# Altium footprint library pcblib_by_wjy.PcbLib: 113 footprints (part 5 of 8)
Each footprint in its own frame and in the unit in brackets; x right, y up, seen from the top. Pads: shape width x height; smd on the part's side, far side on the other; paste and mask are expansions set on the pad; w line width, h text height; cw(c..) or ccw(c..) is an arc to the next point about the centre after c.
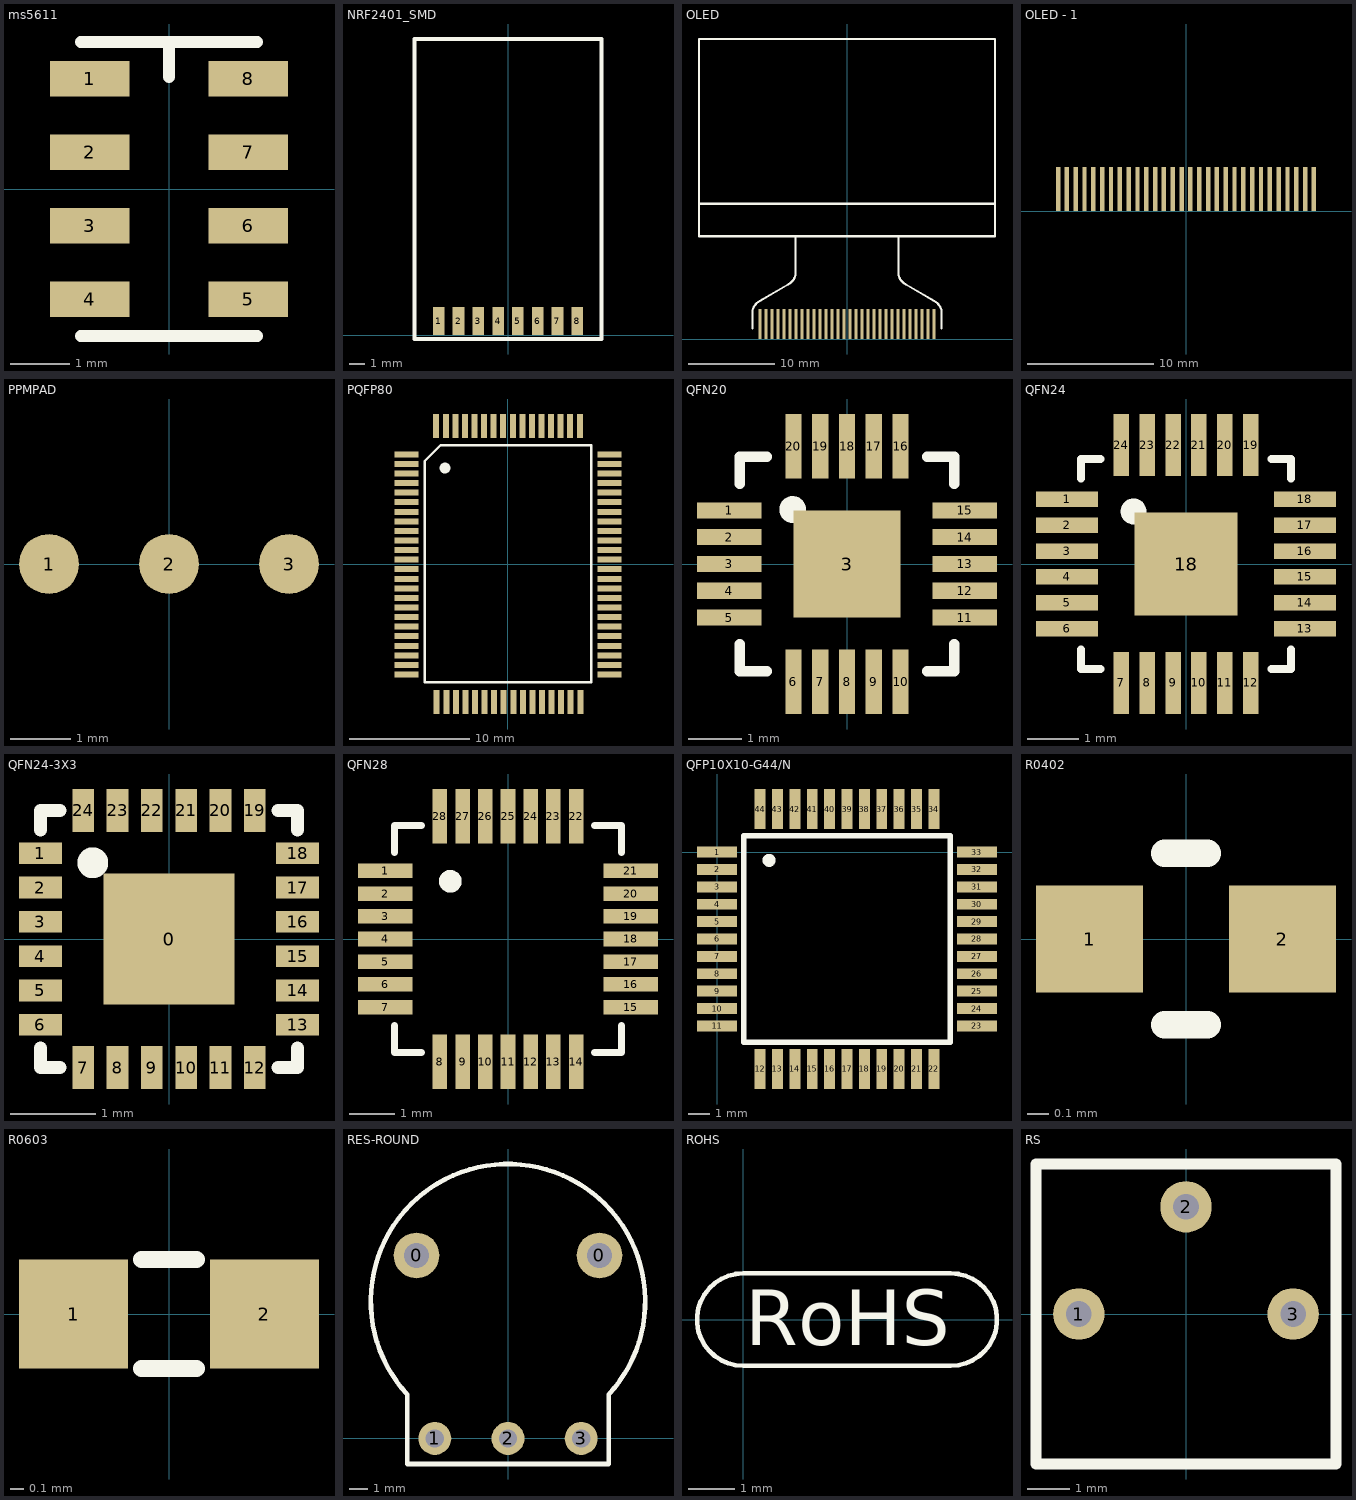
[diagram p4: the footprints below, top view; thin cyan lines are the x and y axes]

## ms5611 [mm]
pads (8):
  rect 1.35x0.6 smd: 1(-1.35,1.875) 2(-1.35,0.625) 3(-1.35,-0.625) 4(-1.35,-1.875) 5(1.35,-1.875) 6(1.35,-0.625) 7(1.35,0.625) 8(1.35,1.875)
Top Overlay:
  lines w0.2: -1.5,-2.5 1.5,-2.5 ; -1.5,2.5 1.5,2.5 ; 0,1.905 0,2.5

## NRF2401_SMD [mm]
pads (8):
  rect 0.75x1.8 smd: 1(-4.445,0.889) 2(-3.175,0.889) 3(-1.905,0.889) 4(-0.635,0.889) 5(0.635,0.889) 6(1.905,0.889) 7(3.175,0.889) 8(4.445,0.889)
Top Overlay:
  lines w0.254: -6,-0.254 -6,19 6,19 6,-0.254 -6,-0.254

## OLED [mm]
pads (30):
  rect 0.35x3.5 smd: 1(-10.15,1.778) 2(-9.45,1.778) 3(-8.75,1.778) 4(-8.05,1.778) 5(-7.35,1.778) 6(-6.65,1.778) 7(-5.95,1.778) 8(-5.25,1.778) 9(-4.55,1.778) 10(-3.85,1.778) 11(-3.15,1.778) 12(-2.45,1.778) 13(-1.75,1.778) 14(-1.05,1.778) 15(-0.35,1.778) 16(0.35,1.778) 17(1.05,1.778) 18(1.75,1.778) 19(2.45,1.778) 20(3.15,1.778) 21(3.85,1.778) 22(4.55,1.778) 23(5.25,1.778) 24(5.95,1.778) 25(6.65,1.778) 26(7.35,1.778) 27(8.05,1.778) 28(8.75,1.778) 29(9.45,1.778) 30(10.15,1.778)
Top Overlay:
  lines w0.254: -17.25,15.8 17.25,15.8 ; -11.005,3.379 cw(c-9.302,2.954) -10.186,4.47 -6.821,6.413 ; -11,1.27 -11,3.379 ; -6.819,6.409 ccw(c-7.702,7.925) -6,7.5 -6,12 ; 6,12 6,7.5 ccw(c7.702,7.926) 6.819,6.409 ; 6.821,6.413 10.186,4.47 cw(c9.302,2.954) 11.005,3.38 ; 11,1.27 11,3.379 ; -17.25,12 17.25,12 17.25,35 -17.25,35 -17.25,12

## OLED - 1 [mm]
pads (30):
  rect 0.35x3.5 smd: 1(-10.15,1.778) 2(-9.45,1.778) 3(-8.75,1.778) 4(-8.05,1.778) 5(-7.35,1.778) 6(-6.65,1.778) 7(-5.95,1.778) 8(-5.25,1.778) 9(-4.55,1.778) 10(-3.85,1.778) 11(-3.15,1.778) 12(-2.45,1.778) 13(-1.75,1.778) 14(-1.05,1.778) 15(-0.35,1.778) 16(0.35,1.778) 17(1.05,1.778) 18(1.75,1.778) 19(2.45,1.778) 20(3.15,1.778) 21(3.85,1.778) 22(4.55,1.778) 23(5.25,1.778) 24(5.95,1.778) 25(6.65,1.778) 26(7.35,1.778) 27(8.05,1.778) 28(8.75,1.778) 29(9.45,1.778) 30(10.15,1.778)

## PPMPAD [mm]
pads (3):
  round 1 smd: 1(-2,0) 2(0,0) 3(2,0)

## PQFP80 [mm]
pads (80):
  rect 2x0.5 smd: 1(-8.5,9.164) 2(-8.5,8.364) 3(-8.5,7.564) 4(-8.5,6.764) 5(-8.5,5.964) 6(-8.5,5.164) 7(-8.5,4.364) 8(-8.5,3.564) 9(-8.5,2.764) 10(-8.5,1.964) 11(-8.5,1.164) 12(-8.5,0.364) 13(-8.5,-0.436) 14(-8.5,-1.236) 15(-8.5,-2.036) 16(-8.5,-2.836) 17(-8.5,-3.636) 18(-8.5,-4.436) 19(-8.5,-5.236) 20(-8.5,-6.036) 21(-8.5,-6.836) 22(-8.5,-7.636) 23(-8.5,-8.436) 24(-8.5,-9.236) 41(8.5,-9.236) 42(8.5,-8.436) 43(8.5,-7.636) 44(8.5,-6.836) 45(8.5,-6.036) 46(8.5,-5.236) 47(8.5,-4.436) 48(8.5,-3.636) 49(8.5,-2.836) 50(8.5,-2.036) 51(8.5,-1.236) 52(8.5,-0.436) 53(8.5,0.364) 54(8.5,1.164) 55(8.5,1.964) 56(8.5,2.764) 57(8.5,3.564) 58(8.5,4.364) 59(8.5,5.164) 60(8.5,5.964) 61(8.5,6.764) 62(8.5,7.564) 63(8.5,8.364) 64(8.5,9.164)
  rect 0.5x2 smd: 25(-5.96,-11.537) 26(-5.16,-11.537) 27(-4.36,-11.537) 28(-3.56,-11.537) 29(-2.76,-11.537) 30(-1.96,-11.537) 31(-1.16,-11.537) 32(-0.36,-11.537) 33(0.44,-11.537) 34(1.24,-11.537) 35(2.04,-11.537) 36(2.84,-11.537) 37(3.64,-11.537) 38(4.44,-11.537) 39(5.24,-11.537) 40(6.04,-11.537) 65(6,11.537) 66(5.2,11.537) 67(4.4,11.537) 68(3.6,11.537) 69(2.8,11.537) 70(2,11.537) 71(1.2,11.537) 72(0.4,11.537) 73(-0.4,11.537) 74(-1.2,11.537) 75(-2,11.537) 76(-2.8,11.537) 77(-3.6,11.537) 78(-4.4,11.537) 79(-5.2,11.537) 80(-6,11.537)
Top Overlay:
  circle w0.5: c-5.271,8.021 r0.2
  lines w0.2: -6.965,-9.886 -6.965,8.594 -5.633,9.926 6.965,9.926 6.965,-9.886 -6.965,-9.886

## QFN20 [mm]
pads (21):
  rect 1.2x0.3 smd: 1(-2.2,1) 2(-2.2,0.5) 3(-2.2,0) 4(-2.2,-0.5) 5(-2.2,-1) 11(2.2,-1) 12(2.2,-0.5) 13(2.2,0) 14(2.2,0.5) 15(2.2,1)
  rect 2x2 smd: 3(0,0)
  rect 0.3x1.2 smd: 6(-1,-2.2) 7(-0.5,-2.2) 8(0,-2.2) 9(0.5,-2.2) 10(1,-2.2) 16(1,2.2) 17(0.5,2.2) 18(0,2.2) 19(-0.5,2.2) 20(-1,2.2)
Top Overlay:
  circle w0.25: c-1.014,1.016 r0.125
  lines w0.2: -2,-1.5 -2,-2 -1.5,-2 ; -2,1.5 -2,2 -1.5,2 ; 1.5,-2 2,-2 2,-1.5 ; 1.5,2 2,2 2,1.5

## QFN24 [mm]
pads (25):
  rect 1.2x0.3 smd: 1(-2.3,1.25) 2(-2.3,0.75) 3(-2.3,0.25) 4(-2.3,-0.25) 5(-2.3,-0.75) 6(-2.3,-1.25) 13(2.3,-1.25) 14(2.3,-0.75) 15(2.3,-0.25) 16(2.3,0.25) 17(2.3,0.75) 18(2.3,1.25)
  rect 0.3x1.2 smd: 7(-1.25,-2.3) 8(-0.75,-2.3) 9(-0.25,-2.3) 10(0.25,-2.3) 11(0.75,-2.3) 12(1.25,-2.3) 19(1.25,2.3) 20(0.75,2.3) 21(0.25,2.3) 22(-0.25,2.3) 23(-0.75,2.3) 24(-1.25,2.3)
  rect 2x2 smd: 18(0,0)
Top Overlay:
  circle w0.25: c-1.014,1.016 r0.125
  lines w0.15: -2.032,-1.651 -2.032,-2.032 -1.651,-2.032 ; -2.032,1.651 -2.032,2.032 -1.651,2.032 ; 1.651,-2.032 2.032,-2.032 2.032,-1.651 ; 1.651,2.032 2.032,2.032 2.032,1.651

## QFN24-3X3 [mm]
pads (25):
  rect 1.524x1.524 smd: 0(0,0)
  rect 0.5x0.254 smd: 1(-1.5,1) 2(-1.5,0.6) 3(-1.5,0.2) 4(-1.5,-0.2) 5(-1.5,-0.6) 6(-1.5,-1) 13(1.5,-1) 14(1.5,-0.6) 15(1.5,-0.2) 16(1.5,0.2) 17(1.5,0.6) 18(1.5,1)
  rect 0.254x0.5 smd: 7(-1,-1.5) 8(-0.6,-1.5) 9(-0.2,-1.5) 10(0.2,-1.5) 11(0.6,-1.5) 12(1,-1.5) 19(1,1.5) 20(0.6,1.5) 21(0.2,1.5) 22(-0.2,1.5) 23(-0.6,1.5) 24(-1,1.5)
Top Overlay:
  circle w0.2: c-0.889,0.889 r0.08
  lines w0.15: -1.5,-1.27 -1.5,-1.5 -1.27,-1.5 ; -1.5,1.27 -1.5,1.5 -1.27,1.5 ; 1.27,-1.5 1.5,-1.5 1.5,-1.27 ; 1.27,1.5 1.5,1.5 1.5,1.27

## QFN28 [mm]
pads (28):
  rect 1.2x0.32 smd: 1(-2.7,1.5) 2(-2.7,1) 3(-2.7,0.5) 4(-2.7,0) 5(-2.7,-0.5) 6(-2.7,-1) 7(-2.7,-1.5) 15(2.7,-1.5) 16(2.7,-1) 17(2.7,-0.5) 18(2.7,0) 19(2.7,0.5) 20(2.7,1) 21(2.7,1.5)
  rect 0.32x1.2 smd: 8(-1.5,-2.7) 9(-1,-2.7) 10(-0.5,-2.7) 11(0,-2.7) 12(0.5,-2.7) 13(1,-2.7) 14(1.5,-2.7) 22(1.5,2.7) 23(1,2.7) 24(0.5,2.7) 25(0,2.7) 26(-0.5,2.7) 27(-1,2.7) 28(-1.5,2.7)
Top Overlay:
  circle w0.25: c-1.268,1.27 r0.125
  lines w0.15: -2.5,-1.9 -2.5,-2.5 -1.9,-2.5 ; -2.5,1.9 -2.5,2.5 -1.9,2.5 ; 1.9,-2.5 2.5,-2.5 2.5,-1.9 ; 1.9,2.5 2.5,2.5 2.5,1.9

## QFP10X10-G44/N [mm]
pads (44):
  rect 1.85x0.5 smd: 1(0,0) 2(0,-0.8) 3(0,-1.6) 4(0,-2.4) 5(0,-3.2) 6(0,-4) 7(0,-4.8) 8(0,-5.6) 9(0,-6.4) 10(0,-7.2) 11(0,-8) 23(11.95,-8) 24(11.95,-7.2) 25(11.95,-6.4) 26(11.95,-5.6) 27(11.95,-4.8) 28(11.95,-4) 29(11.95,-3.2) 30(11.95,-2.4) 31(11.95,-1.6) 32(11.95,-0.8) 33(11.95,0)
  rect 0.5x1.85 smd: 12(1.975,-9.975) 13(2.775,-9.975) 14(3.575,-9.975) 15(4.375,-9.975) 16(5.175,-9.975) 17(5.975,-9.975) 18(6.775,-9.975) 19(7.575,-9.975) 20(8.375,-9.975) 21(9.175,-9.975) 22(9.975,-9.975) 34(9.975,1.975) 35(9.175,1.975) 36(8.375,1.975) 37(7.575,1.975) 38(6.775,1.975) 39(5.975,1.975) 40(5.175,1.975) 41(4.375,1.975) 42(3.575,1.975) 43(2.775,1.975) 44(1.975,1.975)
Top Overlay:
  circle w0.3: c2.39,-0.381 r0.15
  lines w0.25: 1.225,-8.75 1.225,0.75 10.725,0.75 10.725,-8.75 1.225,-8.75

## R0402 [mm] "R0402"
pads (2):
  rect 0.5x0.5 smd: 1(-0.45,0) 2(0.45,0)
Top Overlay:
  lines w0.127: -0.1,-0.4 0.1,-0.4 ; -0.1,0.4 0.1,0.4
3D body "R0402.STEP": height 0.35, standoff 0, extent -0.5,-0.25 0.5,0.25

## R0603 [mm] "R0603"
pads (2):
  rect 0.8x0.8 smd: 1(-0.7,0) 2(0.7,0)
Top Overlay:
  lines w0.127: -0.2,-0.4 0.2,-0.4 ; -0.2,0.4 0.2,0.4
3D body "CAPC1608(0603).STEP": height 0.6, standoff 0, extent -0.75,-0.4 0.85,0.4

## RES-ROUND [mm]
pads (5):
  round 2.5 hole 1.35: 0(-5,10) 0(5,10)
  round 1.8 hole 1: 1(-4,0) 2(0,0) 3(4,0)
Top Overlay:
  lines w0.254: -5.506,2.407 cw(c0,7.5) 5.506,2.407 ; -5.5,2.413 -5.5,-1.397 5.5,-1.397 5.5,2.413

## ROHS [mm]
Top Overlay:
  lines w0.1: 0,-1 cw(c0,0) 0,1 4.5,1 cw(c4.5,0) 4.5,-1 0,-1
  text "RoHS" at 0.051,-0.559 h1.2

## RS [mm]
pads (3):
  round 1.2 hole 0.6: 1(-2.5,0) 2(0,2.5) 3(2.5,0)
Top Overlay:
  lines w0.254: -3.5,-3.5 -3.5,3.5 3.5,3.5 3.5,-3.5 -3.5,-3.5